# Altium footprint library IPC-7353 SOIC_127P_L.PcbLib: 15 footprints
Each footprint in its own frame and in the unit in brackets; x right, y up, seen from the top. Pads: shape width x height; smd on the part's side, far side on the other; paste and mask are expansions set on the pad; w line width, h text height; cw(c..) or ccw(c..) is an arc to the next point about the centre after c.
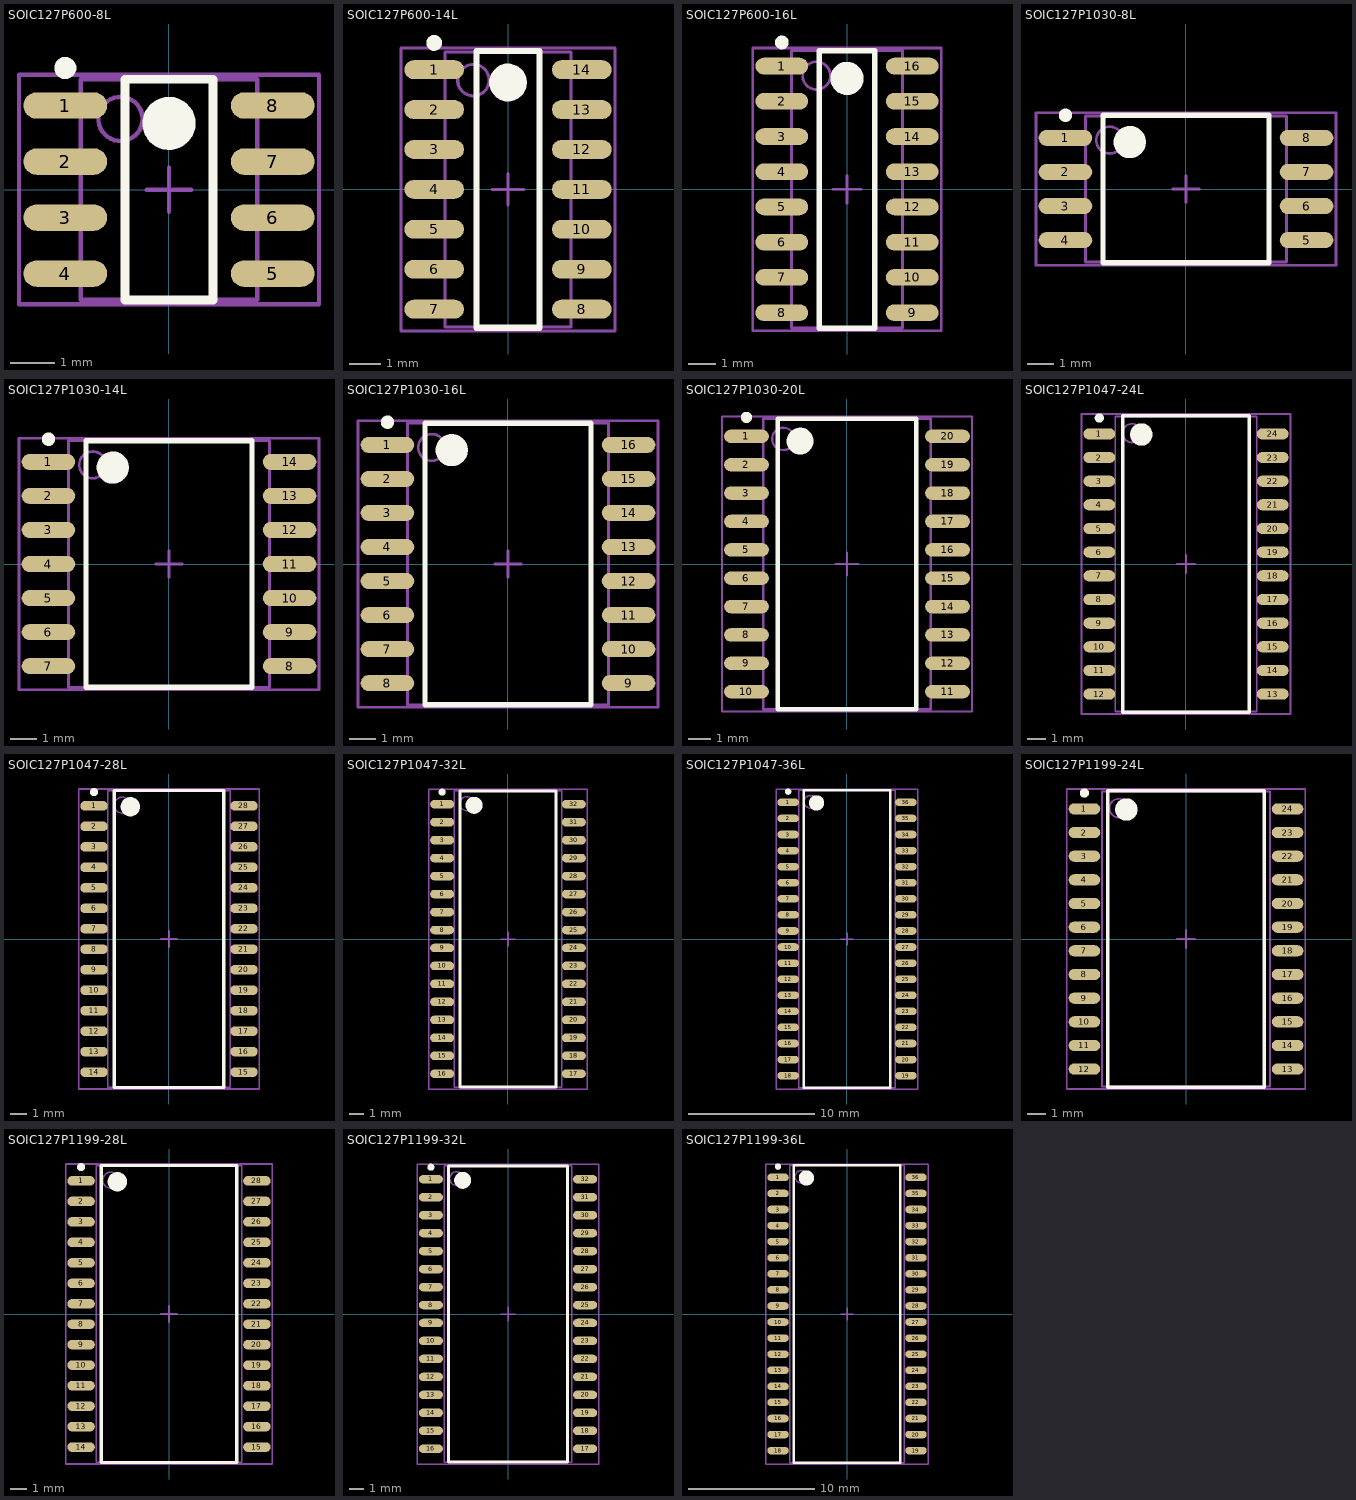
[diagram p0: the footprints below, top view; thin cyan lines are the x and y axes]

## SOIC127P600-8L [mm] "SOIC, 8-Leads, Body 4.9x3.9mm, Pitch 1.27mm, IPC High Density"
height 1.75
pads (8):
  oval 1.9x0.6 smd: 1(-2.35,1.905) 2(-2.35,0.635) 3(-2.35,-0.635) 4(-2.35,-1.905) 5(2.35,-1.905) 6(2.35,-0.635) 7(2.35,0.635) 8(2.35,1.905)
Top Overlay:
  circle w0.25: c-2.35,2.755 r0.125
  circle w0.6: c0,1.5 r0.3
  lines w0.2: -1,-2.5 -1,2.5 1,2.5 1,-2.5 -1,-2.5
Mechanical 13:
  circle w0.1: c-1.1,1.6 r0.5
  lines w0.1: -2,-2.5 -2,2.5 2,2.5 2,-2.5 -2,-2.5
Mechanical 15:
  lines w0.1: -0.5,0 0.5,0 ; 0,-0.5 0,0.5 ; -3.4,-2.6 -3.4,2.6 3.4,2.6 3.4,-2.6 -3.4,-2.6
3D body: height 1.75, standoff 0, extent -2,-2.5 2,2.5

## SOIC127P600-14L [mm] "SOIC, 14-Leads, Body 8.7x3.9mm, Pitch 1.27mm, IPC High Density"
height 1.75
pads (14):
  oval 1.9x0.6 smd: 1(-2.35,3.81) 2(-2.35,2.54) 3(-2.35,1.27) 4(-2.35,0) 5(-2.35,-1.27) 6(-2.35,-2.54) 7(-2.35,-3.81) 8(2.35,-3.81) 9(2.35,-2.54) 10(2.35,-1.27) 11(2.35,0) 12(2.35,1.27) 13(2.35,2.54) 14(2.35,3.81)
Top Overlay:
  circle w0.6: c0,3.4 r0.3
  circle w0.25: c-2.35,4.66 r0.125
  lines w0.2: -1,-4.4 1,-4.4 1,4.4 -1,4.4 -1,-4.4
Mechanical 13:
  circle w0.1: c-1.1,3.475 r0.5
  lines w0.1: -2,-4.375 2,-4.375 2,4.375 -2,4.375 -2,-4.375
Mechanical 15:
  lines w0.1: -0.5,0 0.5,0 ; 0,-0.5 0,0.5 ; -3.4,-4.5 3.4,-4.5 3.4,4.5 -3.4,4.5 -3.4,-4.5
3D body: height 1.75, standoff 0, extent -2,-4.375 2,4.375

## SOIC127P600-16L [mm] "SOIC, 16-Leads, Body 9.9x3.9mm, Pitch 1.27mm, IPC High Density"
height 1.75
pads (16):
  oval 1.9x0.6 smd: 1(-2.35,4.445) 2(-2.35,3.175) 3(-2.35,1.905) 4(-2.35,0.635) 5(-2.35,-0.635) 6(-2.35,-1.905) 7(-2.35,-3.175) 8(-2.35,-4.445) 9(2.35,-4.445) 10(2.35,-3.175) 11(2.35,-1.905) 12(2.35,-0.635) 13(2.35,0.635) 14(2.35,1.905) 15(2.35,3.175) 16(2.35,4.445)
Top Overlay:
  circle w0.6: c0,4 r0.3
  circle w0.25: c-2.35,5.295 r0.125
  lines w0.2: -1,-5 1,-5 1,5 -1,5 -1,-5
Mechanical 13:
  circle w0.1: c-1.1,4.1 r0.5
  lines w0.1: -2,-5 2,-5 2,5 -2,5 -2,-5
Mechanical 15:
  lines w0.1: -0.5,0 0.5,0 ; 0,-0.5 0,0.5 ; -3.4,-5.1 3.4,-5.1 3.4,5.1 -3.4,5.1 -3.4,-5.1
3D body: height 1.75, standoff 0, extent -2,-5 2,5

## SOIC127P1030-8L [mm] "SOIC, 8-Leads, Body 5.3x7.5mm, Pitch 1.27mm, IPC High Density"
height 2.65
pads (8):
  oval 2x0.6 smd: 1(-4.5,1.905) 2(-4.5,0.635) 3(-4.5,-0.635) 4(-4.5,-1.905) 5(4.5,-1.905) 6(4.5,-0.635) 7(4.5,0.635) 8(4.5,1.905)
Top Overlay:
  circle w0.25: c-4.5,2.755 r0.125
  circle w0.6: c-2.1,1.75 r0.3
  lines w0.2: -3.1,-2.75 -3.1,2.75 3.1,2.75 3.1,-2.75 -3.1,-2.75
Mechanical 13:
  circle w0.1: c-2.85,1.825 r0.5
  lines w0.1: -3.75,-2.725 -3.75,2.725 3.75,2.725 3.75,-2.725 -3.75,-2.725
Mechanical 15:
  lines w0.1: -0.5,0 0.5,0 ; 0,-0.5 0,0.5 ; -5.6,-2.85 -5.6,2.85 5.6,2.85 5.6,-2.85 -5.6,-2.85
3D body: height 2.65, standoff 0, extent -3.75,-2.725 3.75,2.725

## SOIC127P1030-14L [mm] "SOIC, 14-Leads, Body 9x7.5mm, Pitch 1.27mm, IPC High Density"
height 2.65
pads (14):
  oval 2x0.6 smd: 1(-4.5,3.81) 2(-4.5,2.54) 3(-4.5,1.27) 4(-4.5,0) 5(-4.5,-1.27) 6(-4.5,-2.54) 7(-4.5,-3.81) 8(4.5,-3.81) 9(4.5,-2.54) 10(4.5,-1.27) 11(4.5,0) 12(4.5,1.27) 13(4.5,2.54) 14(4.5,3.81)
Top Overlay:
  circle w0.25: c-4.5,4.66 r0.125
  circle w0.6: c-2.1,3.6 r0.3
  lines w0.2: -3.1,-4.6 -3.1,4.6 3.1,4.6 3.1,-4.6 -3.1,-4.6
Mechanical 13:
  circle w0.1: c-2.85,3.7 r0.5
  lines w0.1: -3.75,-4.6 -3.75,4.6 3.75,4.6 3.75,-4.6 -3.75,-4.6
Mechanical 15:
  lines w0.1: -0.5,0 0.5,0 ; 0,-0.5 0,0.5 ; -5.6,-4.7 -5.6,4.7 5.6,4.7 5.6,-4.7 -5.6,-4.7
3D body: height 2.65, standoff 0, extent -3.75,-4.6 3.75,4.6

## SOIC127P1030-16L [mm] "SOIC, 16-Leads, Body 10.3x7.5mm, Pitch 1.27mm, IPC High Density"
height 2.65
pads (16):
  oval 2x0.6 smd: 1(-4.5,4.445) 2(-4.5,3.175) 3(-4.5,1.905) 4(-4.5,0.635) 5(-4.5,-0.635) 6(-4.5,-1.905) 7(-4.5,-3.175) 8(-4.5,-4.445) 9(4.5,-4.445) 10(4.5,-3.175) 11(4.5,-1.905) 12(4.5,-0.635) 13(4.5,0.635) 14(4.5,1.905) 15(4.5,3.175) 16(4.5,4.445)
Top Overlay:
  circle w0.25: c-4.5,5.295 r0.125
  circle w0.6: c-2.1,4.25 r0.3
  lines w0.2: -3.1,-5.25 -3.1,5.25 3.1,5.25 3.1,-5.25 -3.1,-5.25
Mechanical 13:
  circle w0.1: c-2.85,4.35 r0.5
  lines w0.1: -3.75,-5.25 -3.75,5.25 3.75,5.25 3.75,-5.25 -3.75,-5.25
Mechanical 15:
  lines w0.1: -0.5,0 0.5,0 ; 0,-0.5 0,0.5 ; -5.6,-5.35 -5.6,5.35 5.6,5.35 5.6,-5.35 -5.6,-5.35
3D body: height 2.65, standoff 0, extent -3.75,-5.25 3.75,5.25

## SOIC127P1030-20L [mm] "SOIC, 20-Leads, Body 12.8x7.5mm, Pitch 1.27mm, IPC High Density"
height 2.65
pads (20):
  oval 2x0.6 smd: 1(-4.5,5.715) 2(-4.5,4.445) 3(-4.5,3.175) 4(-4.5,1.905) 5(-4.5,0.635) 6(-4.5,-0.635) 7(-4.5,-1.905) 8(-4.5,-3.175) 9(-4.5,-4.445) 10(-4.5,-5.715) 11(4.5,-5.715) 12(4.5,-4.445) 13(4.5,-3.175) 14(4.5,-1.905) 15(4.5,-0.635) 16(4.5,0.635) 17(4.5,1.905) 18(4.5,3.175) 19(4.5,4.445) 20(4.5,5.715)
Top Overlay:
  circle w0.25: c-4.5,6.565 r0.125
  circle w0.6: c-2.1,5.5 r0.3
  lines w0.2: -3.1,-6.5 -3.1,6.5 3.1,6.5 3.1,-6.5 -3.1,-6.5
Mechanical 13:
  circle w0.1: c-2.85,5.6 r0.5
  lines w0.1: -3.75,-6.5 -3.75,6.5 3.75,6.5 3.75,-6.5 -3.75,-6.5
Mechanical 15:
  lines w0.1: -0.5,0 0.5,0 ; 0,-0.5 0,0.5 ; -5.6,-6.6 -5.6,6.6 5.6,6.6 5.6,-6.6 -5.6,-6.6
3D body: height 2.65, standoff 0, extent -3.75,-6.5 3.75,6.5

## SOIC127P1047-24L [mm] "SOIC, 24-Leads, Body 15.4x7.5mm, Pitch 1.27mm, IPC High Density"
height 2.67
pads (24):
  oval 1.7x0.6 smd: 1(-4.65,6.985) 2(-4.65,5.715) 3(-4.65,4.445) 4(-4.65,3.175) 5(-4.65,1.905) 6(-4.65,0.635) 7(-4.65,-0.635) 8(-4.65,-1.905) 9(-4.65,-3.175) 10(-4.65,-4.445) 11(-4.65,-5.715) 12(-4.65,-6.985) 13(4.65,-6.985) 14(4.65,-5.715) 15(4.65,-4.445) 16(4.65,-3.175) 17(4.65,-1.905) 18(4.65,-0.635) 19(4.65,0.635) 20(4.65,1.905) 21(4.65,3.175) 22(4.65,4.445) 23(4.65,5.715) 24(4.65,6.985)
Top Overlay:
  circle w0.6: c-2.4,6.95 r0.3
  circle w0.25: c-4.65,7.835 r0.125
  lines w0.2: -3.4,-7.95 3.4,-7.95 3.4,7.95 -3.4,7.95 -3.4,-7.95
Mechanical 13:
  circle w0.1: c-2.9,7.025 r0.5
  lines w0.1: -3.8,-7.925 3.8,-7.925 3.8,7.925 -3.8,7.925 -3.8,-7.925
Mechanical 15:
  lines w0.1: -0.5,0 0.5,0 ; 0,-0.5 0,0.5 ; -5.6,-8.05 5.6,-8.05 5.6,8.05 -5.6,8.05 -5.6,-8.05
3D body: height 2.67, standoff 0, extent -3.8,-7.925 3.8,7.925

## SOIC127P1047-28L [mm] "SOIC, 28-Leads, Body 18.2x7.5mm, Pitch 1.27mm, IPC High Density"
height 2.64
pads (28):
  oval 1.7x0.6 smd: 1(-4.65,8.255) 2(-4.65,6.985) 3(-4.65,5.715) 4(-4.65,4.445) 5(-4.65,3.175) 6(-4.65,1.905) 7(-4.65,0.635) 8(-4.65,-0.635) 9(-4.65,-1.905) 10(-4.65,-3.175) 11(-4.65,-4.445) 12(-4.65,-5.715) 13(-4.65,-6.985) 14(-4.65,-8.255) 15(4.65,-8.255) 16(4.65,-6.985) 17(4.65,-5.715) 18(4.65,-4.445) 19(4.65,-3.175) 20(4.65,-1.905) 21(4.65,-0.635) 22(4.65,0.635) 23(4.65,1.905) 24(4.65,3.175) 25(4.65,4.445) 26(4.65,5.715) 27(4.65,6.985) 28(4.65,8.255)
Top Overlay:
  circle w0.25: c-4.65,9.105 r0.125
  circle w0.6: c-2.4,8.2 r0.3
  lines w0.2: -3.4,-9.2 -3.4,9.2 3.4,9.2 3.4,-9.2 -3.4,-9.2
Mechanical 13:
  circle w0.1: c-2.9,8.295 r0.5
  lines w0.1: -3.8,-9.195 -3.8,9.195 3.8,9.195 3.8,-9.195 -3.8,-9.195
Mechanical 15:
  lines w0.1: -0.5,0 0.5,0 ; 0,-0.5 0,0.5 ; -5.6,-9.3 -5.6,9.3 5.6,9.3 5.6,-9.3 -5.6,-9.3
3D body: height 2.64, standoff 0, extent -3.8,-9.195 3.8,9.195

## SOIC127P1047-32L [mm] "SOIC, 32-Leads, Body 20.8x7.5mm, Pitch 1.27mm, IPC High Density"
height 2.64
pads (32):
  oval 1.7x0.6 smd: 1(-4.65,9.525) 2(-4.65,8.255) 3(-4.65,6.985) 4(-4.65,5.715) 5(-4.65,4.445) 6(-4.65,3.175) 7(-4.65,1.905) 8(-4.65,0.635) 9(-4.65,-0.635) 10(-4.65,-1.905) 11(-4.65,-3.175) 12(-4.65,-4.445) 13(-4.65,-5.715) 14(-4.65,-6.985) 15(-4.65,-8.255) 16(-4.65,-9.525) 17(4.65,-9.525) 18(4.65,-8.255) 19(4.65,-6.985) 20(4.65,-5.715) 21(4.65,-4.445) 22(4.65,-3.175) 23(4.65,-1.905) 24(4.65,-0.635) 25(4.65,0.635) 26(4.65,1.905) 27(4.65,3.175) 28(4.65,4.445) 29(4.65,5.715) 30(4.65,6.985) 31(4.65,8.255) 32(4.65,9.525)
Top Overlay:
  circle w0.6: c-2.4,9.45 r0.3
  circle w0.25: c-4.65,10.375 r0.125
  lines w0.2: -3.4,-10.45 3.4,-10.45 3.4,10.45 -3.4,10.45 -3.4,-10.45
Mechanical 13:
  circle w0.1: c-2.9,9.565 r0.5
  lines w0.1: -3.8,-10.465 3.8,-10.465 3.8,10.465 -3.8,10.465 -3.8,-10.465
Mechanical 15:
  lines w0.1: -0.5,0 0.5,0 ; 0,-0.5 0,0.5 ; -5.6,-10.6 5.6,-10.6 5.6,10.6 -5.6,10.6 -5.6,-10.6
3D body: height 2.64, standoff 0, extent -3.8,-10.465 3.8,10.465

## SOIC127P1047-36L [mm] "SOIC, 36-Leads, Body 23.3x7.5mm, Pitch 1.27mm, IPC High Density"
height 2.64
pads (36):
  oval 1.7x0.6 smd: 1(-4.65,10.795) 2(-4.65,9.525) 3(-4.65,8.255) 4(-4.65,6.985) 5(-4.65,5.715) 6(-4.65,4.445) 7(-4.65,3.175) 8(-4.65,1.905) 9(-4.65,0.635) 10(-4.65,-0.635) 11(-4.65,-1.905) 12(-4.65,-3.175) 13(-4.65,-4.445) 14(-4.65,-5.715) 15(-4.65,-6.985) 16(-4.65,-8.255) 17(-4.65,-9.525) 18(-4.65,-10.795) 19(4.65,-10.795) 20(4.65,-9.525) 21(4.65,-8.255) 22(4.65,-6.985) 23(4.65,-5.715) 24(4.65,-4.445) 25(4.65,-3.175) 26(4.65,-1.905) 27(4.65,-0.635) 28(4.65,0.635) 29(4.65,1.905) 30(4.65,3.175) 31(4.65,4.445) 32(4.65,5.715) 33(4.65,6.985) 34(4.65,8.255) 35(4.65,9.525) 36(4.65,10.795)
Top Overlay:
  circle w0.25: c-4.65,11.645 r0.125
  circle w0.6: c-2.4,10.75 r0.3
  lines w0.2: -3.4,-11.75 -3.4,11.75 3.4,11.75 3.4,-11.75 -3.4,-11.75
Mechanical 13:
  circle w0.1: c-2.9,10.835 r0.5
  lines w0.1: -3.8,-11.735 -3.8,11.735 3.8,11.735 3.8,-11.735 -3.8,-11.735
Mechanical 15:
  lines w0.1: -0.5,0 0.5,0 ; 0,-0.5 0,0.5 ; -5.6,-11.85 -5.6,11.85 5.6,11.85 5.6,-11.85 -5.6,-11.85
3D body: height 2.64, standoff 0, extent -3.8,-11.735 3.8,11.735

## SOIC127P1199-24L [mm] "SOIC, 24-Leads, Body 15.7x8.9mm, Pitch 1.27mm, IPC High Density"
height 2.64
pads (24):
  oval 1.7x0.6 smd: 1(-5.45,6.985) 2(-5.45,5.715) 3(-5.45,4.445) 4(-5.45,3.175) 5(-5.45,1.905) 6(-5.45,0.635) 7(-5.45,-0.635) 8(-5.45,-1.905) 9(-5.45,-3.175) 10(-5.45,-4.445) 11(-5.45,-5.715) 12(-5.45,-6.985) 13(5.45,-6.985) 14(5.45,-5.715) 15(5.45,-4.445) 16(5.45,-3.175) 17(5.45,-1.905) 18(5.45,-0.635) 19(5.45,0.635) 20(5.45,1.905) 21(5.45,3.175) 22(5.45,4.445) 23(5.45,5.715) 24(5.45,6.985)
Top Overlay:
  circle w0.25: c-5.45,7.835 r0.125
  circle w0.6: c-3.2,6.95 r0.3
  lines w0.2: -4.2,-7.95 -4.2,7.95 4.2,7.95 4.2,-7.95 -4.2,-7.95
Mechanical 13:
  circle w0.1: c-3.61,7.025 r0.5
  lines w0.1: -4.51,-7.925 -4.51,7.925 4.51,7.925 4.51,-7.925 -4.51,-7.925
Mechanical 15:
  lines w0.1: -0.5,0 0.5,0 ; 0,-0.5 0,0.5 ; -6.4,-8.05 -6.4,8.05 6.4,8.05 6.4,-8.05 -6.4,-8.05
3D body: height 2.64, standoff 0, extent -4.51,-7.925 4.51,7.925

## SOIC127P1199-28L [mm] "SOIC, 28-Leads, Body 18.3x8.4mm, Pitch 1.27mm, IPC High Density"
height 3
pads (28):
  oval 1.7x0.6 smd: 1(-5.45,8.255) 2(-5.45,6.985) 3(-5.45,5.715) 4(-5.45,4.445) 5(-5.45,3.175) 6(-5.45,1.905) 7(-5.45,0.635) 8(-5.45,-0.635) 9(-5.45,-1.905) 10(-5.45,-3.175) 11(-5.45,-4.445) 12(-5.45,-5.715) 13(-5.45,-6.985) 14(-5.45,-8.255) 15(5.45,-8.255) 16(5.45,-6.985) 17(5.45,-5.715) 18(5.45,-4.445) 19(5.45,-3.175) 20(5.45,-1.905) 21(5.45,-0.635) 22(5.45,0.635) 23(5.45,1.905) 24(5.45,3.175) 25(5.45,4.445) 26(5.45,5.715) 27(5.45,6.985) 28(5.45,8.255)
Top Overlay:
  circle w0.25: c-5.45,9.105 r0.125
  circle w0.6: c-3.2,8.2 r0.3
  lines w0.2: -4.2,-9.2 -4.2,9.2 4.2,9.2 4.2,-9.2 -4.2,-9.2
Mechanical 13:
  circle w0.1: c-3.61,8.295 r0.5
  lines w0.1: -4.51,-9.195 -4.51,9.195 4.51,9.195 4.51,-9.195 -4.51,-9.195
Mechanical 15:
  lines w0.1: -0.5,0 0.5,0 ; 0,-0.5 0,0.5 ; -6.4,-9.3 -6.4,9.3 6.4,9.3 6.4,-9.3 -6.4,-9.3
3D body: height 3, standoff 0, extent -4.51,-9.195 4.51,9.195

## SOIC127P1199-32L [mm] "SOIC, 32-Leads, Body 20.8x8.9mm, Pitch 1.27mm, IPC High Density"
height 2.64
pads (32):
  oval 1.7x0.6 smd: 1(-5.45,9.525) 2(-5.45,8.255) 3(-5.45,6.985) 4(-5.45,5.715) 5(-5.45,4.445) 6(-5.45,3.175) 7(-5.45,1.905) 8(-5.45,0.635) 9(-5.45,-0.635) 10(-5.45,-1.905) 11(-5.45,-3.175) 12(-5.45,-4.445) 13(-5.45,-5.715) 14(-5.45,-6.985) 15(-5.45,-8.255) 16(-5.45,-9.525) 17(5.45,-9.525) 18(5.45,-8.255) 19(5.45,-6.985) 20(5.45,-5.715) 21(5.45,-4.445) 22(5.45,-3.175) 23(5.45,-1.905) 24(5.45,-0.635) 25(5.45,0.635) 26(5.45,1.905) 27(5.45,3.175) 28(5.45,4.445) 29(5.45,5.715) 30(5.45,6.985) 31(5.45,8.255) 32(5.45,9.525)
Top Overlay:
  circle w0.25: c-5.45,10.375 r0.125
  circle w0.6: c-3.2,9.45 r0.3
  lines w0.2: -4.2,-10.45 -4.2,10.45 4.2,10.45 4.2,-10.45 -4.2,-10.45
Mechanical 13:
  circle w0.1: c-3.61,9.565 r0.5
  lines w0.1: -4.51,-10.465 -4.51,10.465 4.51,10.465 4.51,-10.465 -4.51,-10.465
Mechanical 15:
  lines w0.1: -0.5,0 0.5,0 ; 0,-0.5 0,0.5 ; -6.4,-10.6 -6.4,10.6 6.4,10.6 6.4,-10.6 -6.4,-10.6
3D body: height 2.64, standoff 0, extent -4.51,-10.465 4.51,10.465

## SOIC127P1199-36L [mm] "SOIC, 36-Leads, Body 23.3x8.9mm, Pitch 1.27mm, IPC High Density"
height 2.64
pads (36):
  oval 1.7x0.6 smd: 1(-5.45,10.795) 2(-5.45,9.525) 3(-5.45,8.255) 4(-5.45,6.985) 5(-5.45,5.715) 6(-5.45,4.445) 7(-5.45,3.175) 8(-5.45,1.905) 9(-5.45,0.635) 10(-5.45,-0.635) 11(-5.45,-1.905) 12(-5.45,-3.175) 13(-5.45,-4.445) 14(-5.45,-5.715) 15(-5.45,-6.985) 16(-5.45,-8.255) 17(-5.45,-9.525) 18(-5.45,-10.795) 19(5.45,-10.795) 20(5.45,-9.525) 21(5.45,-8.255) 22(5.45,-6.985) 23(5.45,-5.715) 24(5.45,-4.445) 25(5.45,-3.175) 26(5.45,-1.905) 27(5.45,-0.635) 28(5.45,0.635) 29(5.45,1.905) 30(5.45,3.175) 31(5.45,4.445) 32(5.45,5.715) 33(5.45,6.985) 34(5.45,8.255) 35(5.45,9.525) 36(5.45,10.795)
Top Overlay:
  circle w0.25: c-5.45,11.645 r0.125
  circle w0.6: c-3.2,10.75 r0.3
  lines w0.2: -4.2,-11.75 -4.2,11.75 4.2,11.75 4.2,-11.75 -4.2,-11.75
Mechanical 13:
  circle w0.1: c-3.61,10.835 r0.5
  lines w0.1: -4.51,-11.735 -4.51,11.735 4.51,11.735 4.51,-11.735 -4.51,-11.735
Mechanical 15:
  lines w0.1: -0.5,0 0.5,0 ; 0,-0.5 0,0.5 ; -6.4,-11.85 -6.4,11.85 6.4,11.85 6.4,-11.85 -6.4,-11.85
3D body: height 2.64, standoff 0, extent -4.51,-11.735 4.51,11.735